# Altium schematic symbol library TJA1051TK_3_HVSON8.SchLib: 1 symbol
Pins are listed as number, name and electrical type; pins without a type are passive.

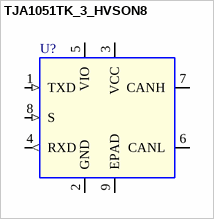
[diagram p0: symbol TJA1051TK_3_HVSON8]

## TJA1051TK_3_HVSON8
designator U?
IC XCVR CAN 5MBIT/S 4.75-5.25V AEC-Q100 HVSON8
pins: 1 TXD (in), 2 GND (power), 3 VCC (power), 4 RXD (out), 5 VIO (power), 6 CANL (io), 7 CANH (io), 8 S (in), 9 EPAD (power)